# Altium footprint library MAX32664.PcbLib: 1 footprints
Each footprint in its own frame and in the unit in brackets; x right, y up, seen from the top. Pads: shape width x height; smd on the part's side, far side on the other; paste and mask are expansions set on the pad; w line width, h text height; cw(c..) or ccw(c..) is an arc to the next point about the centre after c.
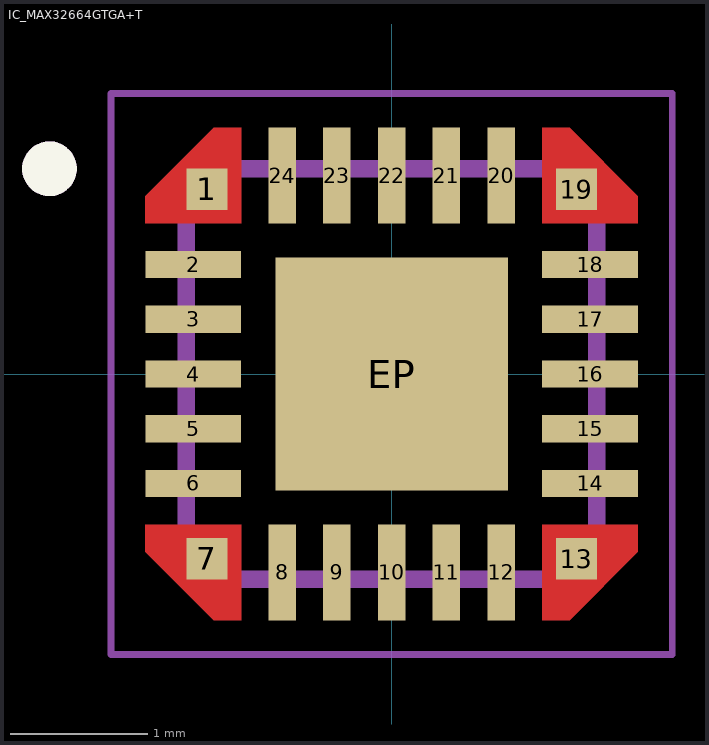
[diagram p0: the footprint, top view; thin cyan lines are the x and y axes]

## IC_MAX32664GTGA+T [mm]
height 0.8
pads (25):
  rect 0.3x0.3 smd paste-1 mask+0: 1(-1.35,1.35) 7(-1.35,-1.35) 13(1.35,-1.35) 19(1.35,1.35)
  rect 0.7x0.2 smd: 2(-1.45,0.8) 3(-1.45,0.4) 4(-1.45,0) 5(-1.45,-0.4) 6(-1.45,-0.8) 14(1.45,-0.8) 15(1.45,-0.4) 16(1.45,0) 17(1.45,0.4) 18(1.45,0.8)
  rect 0.2x0.7 smd: 8(-0.8,-1.45) 9(-0.4,-1.45) 10(0,-1.45) 11(0.4,-1.45) 12(0.8,-1.45) 20(0.8,1.45) 21(0.4,1.45) 22(0,1.45) 23(-0.4,1.45) 24(-0.8,1.45)
  rect 1.7x1.7 smd paste-0.312: EP(0,0)
Top Layer:
  region: -1.1,1.1 -1.8,1.1 -1.8,1.3 -1.3,1.8 -1.1,1.8
  region: -1.1,-1.8 -1.3,-1.8 -1.8,-1.3 -1.8,-1.1 -1.1,-1.1
  region: 1.8,1.3 1.8,1.1 1.1,1.1 1.1,1.8 1.3,1.8
  region: 1.8,-1.3 1.3,-1.8 1.1,-1.8 1.1,-1.1 1.8,-1.1
Top Overlay:
  circle w0.2: c-2.5,1.5 r0.1
Top Paste:
  region: -1.1,1.1 -1.8,1.1 -1.8,1.3 -1.3,1.8 -1.1,1.8
  region: -1.1,-1.8 -1.3,-1.8 -1.8,-1.3 -1.8,-1.1 -1.1,-1.1
  region: 1.8,1.3 1.8,1.1 1.1,1.1 1.1,1.8 1.3,1.8
  region: 1.8,-1.3 1.3,-1.8 1.1,-1.8 1.1,-1.1 1.8,-1.1
Top Solder:
  region: -1,1 -1.9,1 -1.9,1.341 -1.341,1.9 -1,1.9
  region: -1,-1.9 -1.341,-1.9 -1.9,-1.341 -1.9,-1 -1,-1
  region: 1.9,1.341 1.9,1 1,1 1,1.9 1.341,1.9
  region: 1.9,-1.341 1.341,-1.9 1,-1.9 1,-1 1.9,-1
Mechanical 13:
  circle w0.2: c-2.5,1.5 r0.1
  lines w0.127: -1.5,-1.5 1.5,-1.5 1.5,1.5 -1.5,1.5 -1.5,-1.5
Mechanical 15:
  lines w0.05: -2.05,-2.05 -2.05,2.05 2.05,2.05 2.05,-2.05 -2.05,-2.05